# Altium schematic symbol library IRF9383MTRPBF.SchLib: 2 symbols
Pins are listed as number, name and electrical type; pins without a type are passive.

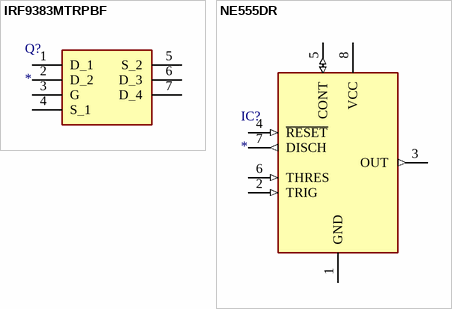
[diagram p0: symbols IRF9383MTRPBF to NE555DR]

## IRF9383MTRPBF
designator Q?
MOSFET (P-Channel); Manufacturer_Name: Infineon; Manufacturer_Part_Number: IRF9383MTRPBF; Datasheet Link: https://www.infineon.com/dgdl/irf9383mpbf.pdf?fileId=5546d462533600a40153561169a11dab; Height: 0.7mm
footprint IRF9383MTRPBF (Footprint not found)
pins: 1 D_1, 2 D_2, 3 G, 4 S_1, 5 S_2, 6 D_3, 7 D_4

## NE555DR
designator IC?
Integrated Circuit; Manufacturer_Name: Texas Instruments; Manufacturer_Part_Number: NE555DR; Datasheet Link: http://www.ti.com/lit/ds/symlink/ne555.pdf; Height: 1.75mm; Mouser Part Number: 595-NE555DR; Mouser Price/Stock: https://www.mouser.com/Search/Refine.aspx?Keyword=595-NE555DR; RS Part Number: 1218414; RS Price/Stock: http://uk.rs-online.com/web/p/products/1218414
footprint SOIC127P600X175-8N
pins: 1 GND (power), 2 TRIG (in), 3 OUT (out), 4 ~{RESET} (in), 5 CONT (io), 6 THRES (in), 7 DISCH (out), 8 VCC (power)